# EAGLE library part LPC_HEADER (library xbox)
Multi connection point. Often used as Generic Header-pin footprint for 0.1 inch spaced/style header connections You can populate with any combo of single row headers, but if you'd like an exact match, check this: Header - 2x8 (Male, 0.1") <https://www.sparkfun.com/products/13156> (PRT-13156) On any of the 0.1 inch spaced packages, you can populate with these: Break Away Headers - Straight <https://www.sparkfun.com/products/116> (PRT-00116) Break Away Male Headers - Right Angle <https://www.sparkfun.com/products/553> (PRT-00553) Female Headers <https://www.sparkfun.com/products/115> (PRT-00115) Break Away Headers - Machine Pin <https://www.sparkfun.com/products/117> (PRT-00117) Break Away Female Headers - Swiss Machine Pin <https://www.sparkfun.com/products/743> (PRT-00743)
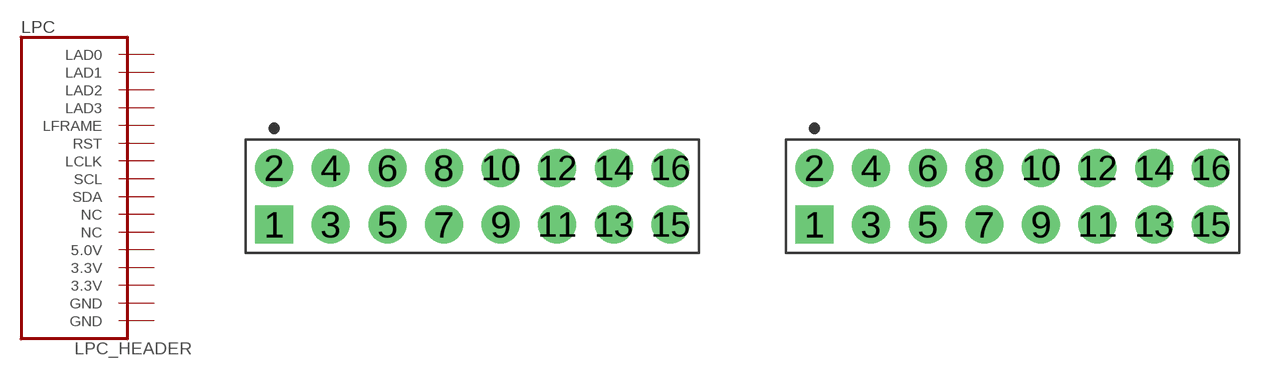
[diagram p1: symbol with the pads of HDRV16W64P254_2X8_1524X508X838B; footprints HDRV16W64P254_2X8_1524X508X838B, HDRVR16W64P254_2X8_1524X508X254B]

Designator prefix LPC

## LPC_HEADERLPC_MALE  [HDRV16W64P254_2X8_1524X508X838B]
1  LCLK  pas
2  GND  sup
3  LFRAME  pas
4  NC  nc
5  RST  pas
6  5.0V  sup
7  LAD3  pas
8  LAD2  pas
9  3.3V  sup
10  LAD1  pas
11  LAD0  pas
12  GND  sup
13  SCL  pas
14  SDA  pas
15  3.3V  sup
16  NC  nc

## LPC_HEADERLPC_FEMALE  [HDRVR16W64P254_2X8_1524X508X254B]
Pads as for HDRV16W64P254_2X8_1524X508X838B

## Footprint HDRV16W64P254_2X8_1524X508X838B (pad centres in mm)
drill 1.105 pad 1.705 square: 1 0,-2.54
drill 1.105 pad 1.705: 2 0,0; 3 2.54,-2.54; 4 2.54,0; 5 5.08,-2.54; 6 5.08,0; 7 7.62,-2.54; 8 7.62,0; 9 10.16,-2.54; 10 10.16,0; 11 12.7,-2.54; 12 12.7,0; 13 15.24,-2.54; 14 15.24,0; 15 17.78,-2.54; 16 17.78,0

## Footprint HDRVR16W64P254_2X8_1524X508X254B (pad centres in mm)
drill 1.105 pad 1.705 square: 1 0,-2.54
drill 1.105 pad 1.705: 2 0,0; 3 2.54,-2.54; 4 2.54,0; 5 5.08,-2.54; 6 5.08,0; 7 7.62,-2.54; 8 7.62,0; 9 10.16,-2.54; 10 10.16,0; 11 12.7,-2.54; 12 12.7,0; 13 15.24,-2.54; 14 15.24,0; 15 17.78,-2.54; 16 17.78,0